# EAGLE library part LM70CIMM-3 (library LM70CIMM-3)
10-Bit plus Sign Digital Temperature Sensor
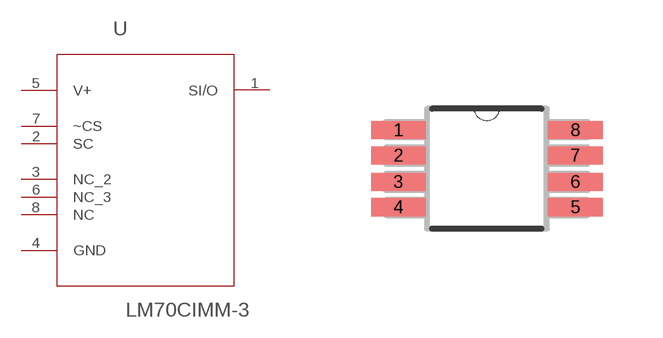
[diagram p0: symbol with the pads of SOP65P490X110-8N; footprint SOP65P490X110-8N]

Designator prefix U

## LM70CIMM-3 (Availability: Unavailable; Description: Temperature Sensor Digital, Local -55°C ~ 150°C 10 b 8-VSSOP; MF: Texas Instruments; MP: LM70CIMM-3/NOPB; Package: MSOP-8 Texas Instruments; Price: None)  [SOP65P490X110-8N]
1  SI/O
2  SC  in
3  NC_2  nc
4  GND  pas
5  V+  pwr
6  NC_3  nc
7  ~CS  in
8  NC  nc

## Footprint SOP65P490X110-8N (pad centres in mm)
smd 1.372 x 0.457: 1 -2.21,0.965; 2 -2.21,0.33; 3 -2.21,-0.33; 4 -2.21,-0.965; 5 2.21,-0.965; 6 2.21,-0.33; 7 2.21,0.33; 8 2.21,0.965